# Altium schematic symbol library MT_Connector.SchLib: 48 symbols
Pins are listed as number, name and electrical type; pins without a type are passive.

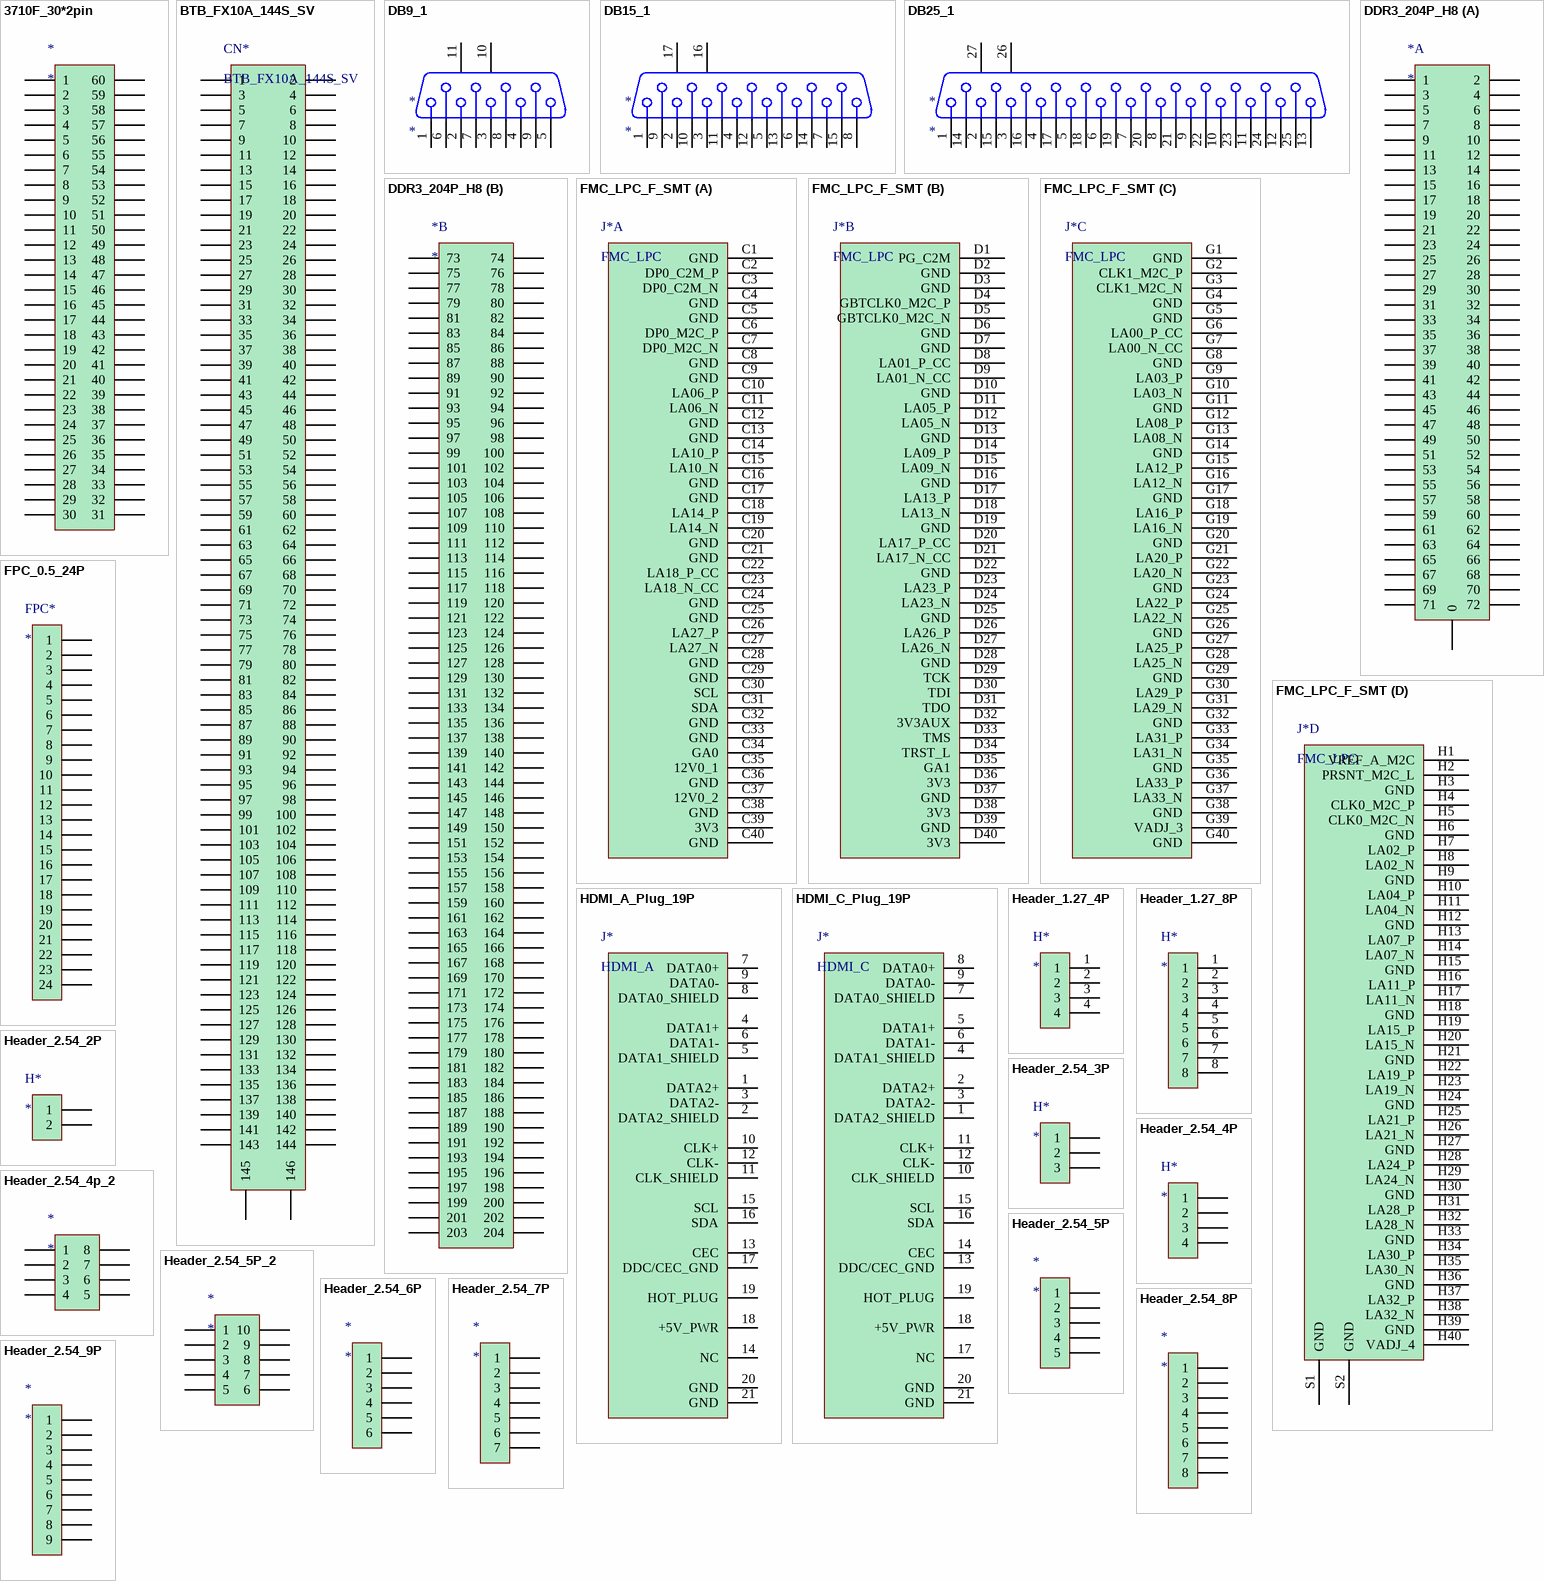
[diagram p0: symbols 3710F_30*2pin to Header_2.54_9P]

## 3710F_30*2pin
designator *
FPC
footprint 3710F060046G3FT01
pins: 1, 2, 3, 4, 5, 6, 7, 8, 9, 10, 11, 12, 13, 14, 15, 16, 17, 18, 19, 20, 21, 22, 23, 24, 25, 26, 27, 28, 29, 30, 31, 32, 33, 34, 35, 36, 37, 38, 39, 40, 41, 42, 43, 44, 45, 46, 47, 48, 49, 50, 51, 52, 53, 54, 55, 56, 57, 58, 59, 60

## BTB_FX10A_144S_SV
designator CN*
pins: 1, 2, 3, 4, 5, 6, 7, 8, 9, 10, 11, 12, 13, 14, 15, 16, 17, 18, 19, 20, 21, 22, 23, 24, 25, 26, 27, 28, 29, 30, 31, 32, 33, 34, 35, 36, 37, 38, 39, 40, 41, 42, 43, 44, 45, 46, 47, 48, 49, 50, 51, 52, 53, 54, 55, 56, 57, 58, 59, 60, 61, 62, 63, 64, 65, 66, 67, 68, 69, 70, 71, 72, 73, 74, 75, 76, 77, 78, 79, 80, 81, 82, 83, 84, 85, 86, 87, 88, 89, 90, 91, 92, 93, 94, 95, 96, 97, 98, 99, 100, 101, 102, 103, 104, 105, 106, 107, 108, 109, 110, 111, 112, 113, 114, 115, 116, 117, 118, 119, 120, 121, 122, 123, 124, 125, 126, 127, 128, 129, 130, 131, 132, 133, 134, 135, 136, 137, 138, 139, 140, 141, 142, 143, 144, 145, 146

## DB9_1
designator *
DB
footprint DB9_1
pins: 1, 2, 3, 4, 5, 6, 7, 8, 9, 10 MH1, 11 MH2

## DB15_1
designator *
DB
footprint DB15_1
pins: 1, 2, 3, 4, 5, 6, 7, 8, 9, 10, 11, 12, 13, 14, 15, 16 MH1, 17 MH2

## DB25_1
designator *
DB
footprint DB25_1
pins: 1, 2, 3, 4, 5, 6, 7, 8, 9, 10, 11, 12, 13, 14, 15, 16, 17, 18, 19, 20, 21, 22, 23, 24, 25, 26 MH1, 27 MH2

## DDR3_204P_H8
designator *
DDR3
footprint DDR3_204P_H8
part A pins: 0, 1, 2, 3, 4, 5, 6, 7, 8, 9, 10, 11, 12, 13, 14, 15, 16, 17, 18, 19, 20, 21, 22, 23, 24, 25, 26, 27, 28, 29, 30, 31, 32, 33, 34, 35, 36, 37, 38, 39, 40, 41, 42, 43, 44, 45, 46, 47, 48, 49, 50, 51, 52, 53, 54, 55, 56, 57, 58, 59, 60, 61, 62, 63, 64, 65, 66, 67, 68, 69, 70, 71, 72
part B pins: 73, 74, 75, 76, 77, 78, 79, 80, 81, 82, 83, 84, 85, 86, 87, 88, 89, 90, 91, 92, 93, 94, 95, 96, 97, 98, 99, 100, 101, 102, 103, 104, 105, 106, 107, 108, 109, 110, 111, 112, 113, 114, 115, 116, 117, 118, 119, 120, 121, 122, 123, 124, 125, 126, 127, 128, 129, 130, 131, 132, 133, 134, 135, 136, 137, 138, 139, 140, 141, 142, 143, 144, 145, 146, 147, 148, 149, 150, 151, 152, 153, 154, 155, 156, 157, 158, 159, 160, 161, 162, 163, 164, 165, 166, 167, 168, 169, 170, 171, 172, 173, 174, 175, 176, 177, 178, 179, 180, 181, 182, 183, 184, 185, 186, 187, 188, 189, 190, 191, 192, 193, 194, 195, 196, 197, 198, 199, 200, 201, 202, 203, 204

## FMC_LPC_F_SMT
designator J*, comment FMC_LPC
FMC_LPC_F_SMT
part A pins: C1 GND, C2 DP0_C2M_P, C3 DP0_C2M_N, C4 GND, C5 GND, C6 DP0_M2C_P, C7 DP0_M2C_N, C8 GND, C9 GND, C10 LA06_P, C11 LA06_N, C12 GND, C13 GND, C14 LA10_P, C15 LA10_N, C16 GND, C17 GND, C18 LA14_P, C19 LA14_N, C20 GND, C21 GND, C22 LA18_P_CC, C23 LA18_N_CC, C24 GND, C25 GND, C26 LA27_P, C27 LA27_N, C28 GND, C29 GND, C30 SCL, C31 SDA, C32 GND, C33 GND, C34 GA0, C35 12V0_1, C36 GND, C37 12V0_2, C38 GND, C39 3V3, C40 GND
part B pins: D1 PG_C2M, D2 GND, D3 GND, D4 GBTCLK0_M2C_P, D5 GBTCLK0_M2C_N, D6 GND, D7 GND, D8 LA01_P_CC, D9 LA01_N_CC, D10 GND, D11 LA05_P, D12 LA05_N, D13 GND, D14 LA09_P, D15 LA09_N, D16 GND, D17 LA13_P, D18 LA13_N, D19 GND, D20 LA17_P_CC, D21 LA17_N_CC, D22 GND, D23 LA23_P, D24 LA23_N, D25 GND, D26 LA26_P, D27 LA26_N, D28 GND, D29 TCK, D30 TDI, D31 TDO, D32 3V3AUX, D33 TMS, D34 TRST_L, D35 GA1, D36 3V3, D37 GND, D38 3V3, D39 GND, D40 3V3
part C pins: G1 GND, G2 CLK1_M2C_P, G3 CLK1_M2C_N, G4 GND, G5 GND, G6 LA00_P_CC, G7 LA00_N_CC, G8 GND, G9 LA03_P, G10 LA03_N, G11 GND, G12 LA08_P, G13 LA08_N, G14 GND, G15 LA12_P, G16 LA12_N, G17 GND, G18 LA16_P, G19 LA16_N, G20 GND, G21 LA20_P, G22 LA20_N, G23 GND, G24 LA22_P, G25 LA22_N, G26 GND, G27 LA25_P, G28 LA25_N, G29 GND, G30 LA29_P, G31 LA29_N, G32 GND, G33 LA31_P, G34 LA31_N, G35 GND, G36 LA33_P, G37 LA33_N, G38 GND, G39 VADJ_3, G40 GND
part D pins: H1 VREF_A_M2C, H2 PRSNT_M2C_L, H3 GND, H4 CLK0_M2C_P, H5 CLK0_M2C_N, H6 GND, H7 LA02_P, H8 LA02_N, H9 GND, H10 LA04_P, H11 LA04_N, H12 GND, H13 LA07_P, H14 LA07_N, H15 GND, H16 LA11_P, H17 LA11_N, H18 GND, H19 LA15_P, H20 LA15_N, H21 GND, H22 LA19_P, H23 LA19_N, H24 GND, H25 LA21_P, H26 LA21_N, H27 GND, H28 LA24_P, H29 LA24_N, H30 GND, H31 LA28_P, H32 LA28_N, H33 GND, H34 LA30_P, H35 LA30_N, H36 GND, H37 LA32_P, H38 LA32_N, H39 GND, H40 VADJ_4, S1 GND, S2 GND

## FPC_0.5_24P
designator FPC*
FPC 0.5 24Pin
footprint FPC_0.5_24PIN
pins: 1, 2, 3, 4, 5, 6, 7, 8, 9, 10, 11, 12, 13, 14, 15, 16, 17, 18, 19, 20, 21, 22, 23, 24

## HDMI_A_Plug_19P
designator J*, comment HDMI_A
HDMI A公头插板19pin
footprint HDMI_A_Plug_19P
pins: 1 DATA2+, 2 DATA2_SHIELD, 3 DATA2-, 4 DATA1+, 5 DATA1_SHIELD, 6 DATA1-, 7 DATA0+, 8 DATA0_SHIELD, 9 DATA0-, 10 CLK+, 11 CLK_SHIELD, 12 CLK-, 13 CEC, 14 NC, 15 SCL, 16 SDA, 17 DDC/CEC_GND, 18 +5V_PWR, 19 HOT_PLUG, 20 GND, 21 GND

## HDMI_C_Plug_19P
designator J*, comment HDMI_C
HDMI C公头插板19pin
footprint HDMI_C_Plug_19P
pins: 1 DATA2_SHIELD, 2 DATA2+, 3 DATA2-, 4 DATA1_SHIELD, 5 DATA1+, 6 DATA1-, 7 DATA0_SHIELD, 8 DATA0+, 9 DATA0-, 10 CLK_SHIELD, 11 CLK+, 12 CLK-, 13 DDC/CEC_GND, 14 CEC, 15 SCL, 16 SDA, 17 NC, 18 +5V_PWR, 19 HOT_PLUG, 20 GND, 21 GND

## Header_1.27_4P
designator H*
PinHeader 1.27
footprint HDR1.27_4P
pins: 1, 2, 3, 4

## Header_1.27_8P
designator H*
PinHeader 1.27
footprint HDR1.27_8P
pins: 1, 2, 3, 4, 5, 6, 7, 8

## Header_2.54_2P
designator H*
PinHeader 2.54
footprint HDR1_2P
pins: 1, 2

## Header_2.54_3P
designator H*
PinHeader 2.54
footprint HDR1_3P
pins: 1, 2, 3

## Header_2.54_4P
designator H*
PinHeader 2.54
footprint HDR1_4P
pins: 1, 2, 3, 4

## Header_2.54_4p_2
designator *
PinHeader 2.54
footprint HDR2_4P
pins: 1, 2, 3, 4, 5, 6, 7, 8

## Header_2.54_5P
designator *
PinHeader 2.54
footprint HDR1_5P
pins: 1, 2, 3, 4, 5

## Header_2.54_5P_2
designator *
PinHeader 2.54
footprint HDR2_5P
pins: 1, 2, 3, 4, 5, 6, 7, 8, 9, 10

## Header_2.54_6P
designator *
PinHeader 2.54
footprint HDR1_6P
pins: 1, 2, 3, 4, 5, 6

## Header_2.54_7P
designator *
PinHeader 2.54
footprint HDR1_7P
pins: 1, 2, 3, 4, 5, 6, 7

## Header_2.54_8P
designator *
PinHeader 2.54
footprint HDR1_8P
pins: 1, 2, 3, 4, 5, 6, 7, 8

## Header_2.54_9P
designator *
PinHeader 2.54
footprint HDR1_9P
pins: 1, 2, 3, 4, 5, 6, 7, 8, 9

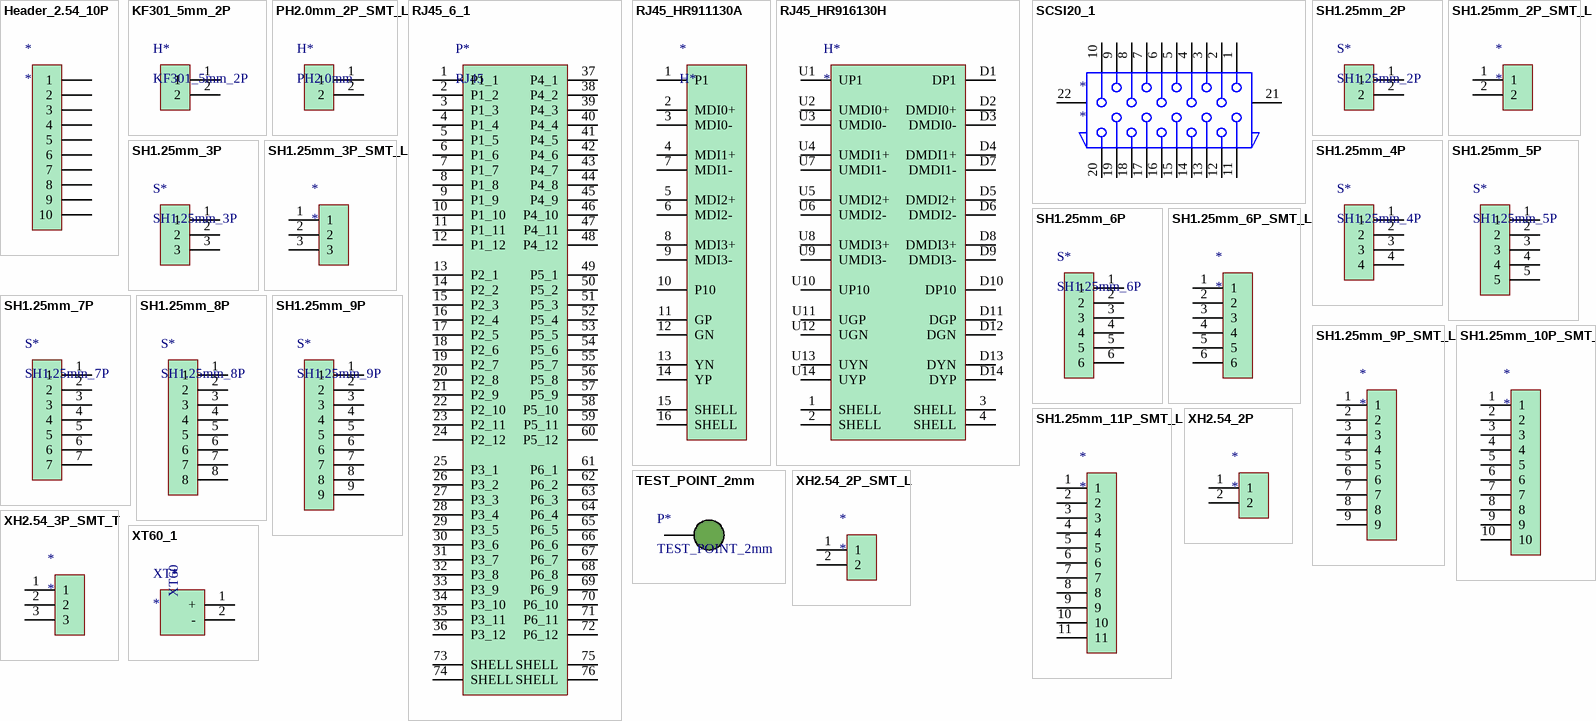
[diagram p1: symbols Header_2.54_10P to XT60_1]

## Header_2.54_10P
designator *
PinHeader 2.54
footprint HDR1_10P
pins: 1, 2, 3, 4, 5, 6, 7, 8, 9, 10

## KF301_5mm_2P
designator H*
HEADER
footprint KF301_5mm_2P
pins: 1, 2

## PH2.0mm_2P_SMT_L
designator H*, comment PH2.0mm
PH2.0
footprint PH2.0_2P_SMT_L
pins: 1, 2

## RJ45_6_1
designator P*, comment RJ45
footprint RJ45_6_1
pins: 1 P1_1, 2 P1_2, 3 P1_3, 4 P1_4, 5 P1_5, 6 P1_6, 7 P1_7, 8 P1_8, 9 P1_9, 10 P1_10, 11 P1_11, 12 P1_12, 13 P2_1, 14 P2_2, 15 P2_3, 16 P2_4, 17 P2_5, 18 P2_6, 19 P2_7, 20 P2_8, 21 P2_9, 22 P2_10, 23 P2_11, 24 P2_12, 25 P3_1, 26 P3_2, 27 P3_3, 28 P3_4, 29 P3_5, 30 P3_6, 31 P3_7, 32 P3_8, 33 P3_9, 34 P3_10, 35 P3_11, 36 P3_12, 37 P4_1, 38 P4_2, 39 P4_3, 40 P4_4, 41 P4_5, 42 P4_6, 43 P4_7, 44 P4_8, 45 P4_9, 46 P4_10, 47 P4_11, 48 P4_12, 49 P5_1, 50 P5_2, 51 P5_3, 52 P5_4, 53 P5_5, 54 P5_6, 55 P5_7, 56 P5_8, 57 P5_9, 58 P5_10, 59 P5_11, 60 P5_12, 61 P6_1, 62 P6_2, 63 P6_3, 64 P6_4, 65 P6_5, 66 P6_6, 67 P6_7, 68 P6_8, 69 P6_9, 70 P6_10, 71 P6_11, 72 P6_12, 73 SHELL, 74 SHELL, 75 SHELL, 76 SHELL

## RJ45_HR911130A
designator *, comment H*
RJ45
footprint HR911130A
pins: 1 P1, 2 MDI0+, 3 MDI0-, 4 MDI1+, 5 MDI2+, 6 MDI2-, 7 MDI1-, 8 MDI3+, 9 MDI3-, 10 P10, 11 GP, 12 GN, 13 YN, 14 YP, 15 SHELL, 16 SHELL

## RJ45_HR916130H
designator H*
RJ45
footprint HR916130H
pins: 1 SHELL, 2 SHELL, 3 SHELL, 4 SHELL, D1 DP1, D2 DMDI0+, D3 DMDI0-, D4 DMDI1+, D5 DMDI2+, D6 DMDI2-, D7 DMDI1-, D8 DMDI3+, D9 DMDI3-, D10 DP10, D11 DGP, D12 DGN, D13 DYN, D14 DYP, U1 UP1, U2 UMDI0+, U3 UMDI0-, U4 UMDI1+, U5 UMDI2+, U6 UMDI2-, U7 UMDI1-, U8 UMDI3+, U9 UMDI3-, U10 UP10, U11 UGP, U12 UGN, U13 UYN, U14 UYP

## SCSI20_1
designator *
SCSI
footprint SCSI20_1
pins: 1, 2, 3, 4, 5, 6, 7, 8, 9, 10, 11, 12, 13, 14, 15, 16, 17, 18, 19, 20, 21 SHELL, 22 SHELL

## SH1.25mm_2P
designator S*
SH
footprint SH1.25mm_2P
pins: 1, 2

## SH1.25mm_2P_SMT_L
designator *
SH
footprint SH1.25MM_2P_SMT_L
pins: 1, 2

## SH1.25mm_3P
designator S*
SH
footprint SH1.25mm_3P
pins: 1, 2, 3

## SH1.25mm_3P_SMT_L
designator *
SH
footprint SH1.25MM_3P_SMT_L
pins: 1, 2, 3

## SH1.25mm_4P
designator S*
SH
footprint SH1.25MM_4P
pins: 1, 2, 3, 4

## SH1.25mm_5P
designator S*
SH
footprint SH1.25MM_5P
pins: 1, 2, 3, 4, 5

## SH1.25mm_6P
designator S*
SH
footprint SH1.25MM_6P
pins: 1, 2, 3, 4, 5, 6

## SH1.25mm_6P_SMT_L
designator *
SH
footprint SH1.25MM_6P_SMT_L
pins: 1, 2, 3, 4, 5, 6

## SH1.25mm_7P
designator S*
SH
footprint SH1.25MM_7P
pins: 1, 2, 3, 4, 5, 6, 7

## SH1.25mm_8P
designator S*
SH
footprint SH1.25MM_8P
pins: 1, 2, 3, 4, 5, 6, 7, 8

## SH1.25mm_9P
designator S*
SH
footprint SH1.25MM_9P
pins: 1, 2, 3, 4, 5, 6, 7, 8, 9

## SH1.25mm_9P_SMT_L
designator *
SH
footprint SH1.25MM_9P_SMT_L
pins: 1, 2, 3, 4, 5, 6, 7, 8, 9

## SH1.25mm_10P_SMT_L
designator *
SH
footprint SH1.25MM_10P_SMT_L
pins: 1, 2, 3, 4, 5, 6, 7, 8, 9, 10

## SH1.25mm_11P_SMT_L
designator *
SH
footprint SH1.25MM_11P_SMT_L
pins: 1, 2, 3, 4, 5, 6, 7, 8, 9, 10, 11

## TEST_POINT_2mm
designator P*
TestPoint
footprint TEST_POINT_2mm
pins: 1

## XH2.54_2P
designator *
XH
footprint XH2.5_2P
pins: 1, 2

## XH2.54_2P_SMT_L
designator *
XH
footprint XH2.54_2P_SMT_L
pins: 1, 2

## XH2.54_3P_SMT_T
designator *
XH
footprint XH2.54_3P_SMT_L
pins: 1, 2, 3

## XT60_1
designator XT*
XT60
footprint XT60_1
pins: 1 +, 2 -